# Altium footprint library QFN-64_9x9x05P.PcbLib: 1 footprints
Each footprint in its own frame and in the unit in brackets; x right, y up, seen from the top. Pads: shape width x height; smd on the part's side, far side on the other; paste and mask are expansions set on the pad; w line width, h text height; cw(c..) or ccw(c..) is an arc to the next point about the centre after c.
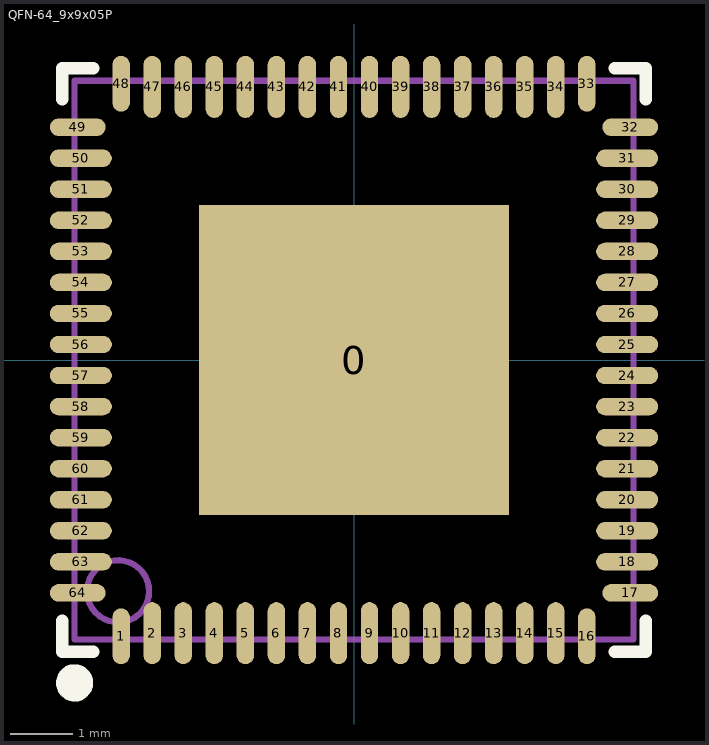
[diagram p0: the footprint, top view; thin cyan lines are the x and y axes]

## QFN-64_9x9x05P [mm]
pads (65):
  rect 5x5 smd mask+0.051: 0(0,0)
  oval 0.28x0.9 smd mask+0.051: 1(-3.75,-4.45) 16(3.75,-4.45) 33(3.75,4.45) 48(-3.75,4.45)
  oval 0.28x1 smd mask+0.051: 2(-3.25,-4.4) 3(-2.75,-4.4) 4(-2.25,-4.4) 5(-1.75,-4.4) 6(-1.25,-4.4) 7(-0.75,-4.4) 8(-0.25,-4.4) 9(0.25,-4.4) 10(0.75,-4.4) 11(1.25,-4.4) 12(1.75,-4.4) 13(2.25,-4.4) 14(2.75,-4.4) 15(3.25,-4.4) 34(3.25,4.4) 35(2.75,4.4) 36(2.25,4.4) 37(1.75,4.4) 38(1.25,4.4) 39(0.75,4.4) 40(0.25,4.4) 41(-0.25,4.4) 42(-0.75,4.4) 43(-1.25,4.4) 44(-1.75,4.4) 45(-2.25,4.4) 46(-2.75,4.4) 47(-3.25,4.4)
  oval 0.9x0.28 smd mask+0.051: 17(4.45,-3.75) 32(4.45,3.75) 49(-4.45,3.75) 64(-4.45,-3.75)
  oval 1x0.28 smd mask+0.051: 18(4.4,-3.25) 19(4.4,-2.75) 20(4.4,-2.25) 21(4.4,-1.75) 22(4.4,-1.25) 23(4.4,-0.75) 24(4.4,-0.25) 25(4.4,0.25) 26(4.4,0.75) 27(4.4,1.25) 28(4.4,1.75) 29(4.4,2.25) 30(4.4,2.75) 31(4.4,3.25) 50(-4.4,3.25) 51(-4.4,2.75) 52(-4.4,2.25) 53(-4.4,1.75) 54(-4.4,1.25) 55(-4.4,0.75) 56(-4.4,0.25) 57(-4.4,-0.25) 58(-4.4,-0.75) 59(-4.4,-1.25) 60(-4.4,-1.75) 61(-4.4,-2.25) 62(-4.4,-2.75) 63(-4.4,-3.25)
Top Overlay:
  circle w0.3: c-4.5,-5.2 r0.15
  lines w0.2: -4.7,-4.2 -4.7,-4.7 -4.2,-4.7 ; -4.7,4.2 -4.7,4.7 -4.2,4.7 ; 4.2,-4.7 4.7,-4.7 4.7,-4.2 ; 4.2,4.7 4.7,4.7 4.7,4.2
Mechanical 13:
  circle w0.1: c-3.8,-3.725 r0.5
  lines w0.1: -4.5,-4.5 -4.5,4.5 4.5,4.5 4.5,-4.5 -4.5,-4.5